# EAGLE library part TPS54561-Q1 (library Power Board Components)
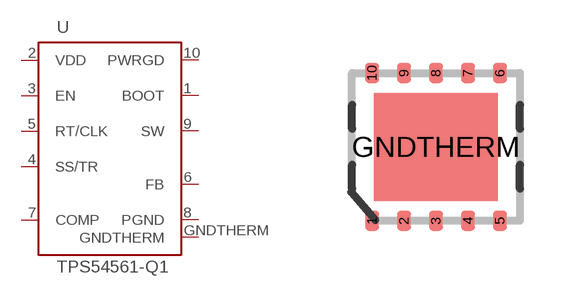
[diagram p3: symbol with the pads of PWSON10; footprint PWSON10]

Designator prefix -

## TPS54561-Q1  [PWSON10]
1  BOOT  pas
2  VDD  pwr
3  EN  in
4  SS/TR
5  RT/CLK
6  FB  in
7  COMP
8  PGND  pwr
9  SW  out
10  PWRGD  out
GNDTHERM  GNDTHERM  pwr

## Footprint PWSON10 (pad centres in mm)
smd 0.35 x 0.5: 1 -1.6,-1.85; 2 -0.8,-1.85; 3 0,-1.85; 4 0.8,-1.85; 5 1.6,-1.85; 6 1.6,1.85; 7 0.8,1.85; 8 0,1.85; 9 -0.8,1.85; 10 -1.6,1.85
smd 3.1 x 2.7: GNDTHERM 0,0